# EAGLE library part ADUM1200ARZ (library ADUM1200ARZ)
Dual-Channel Digital Isolators
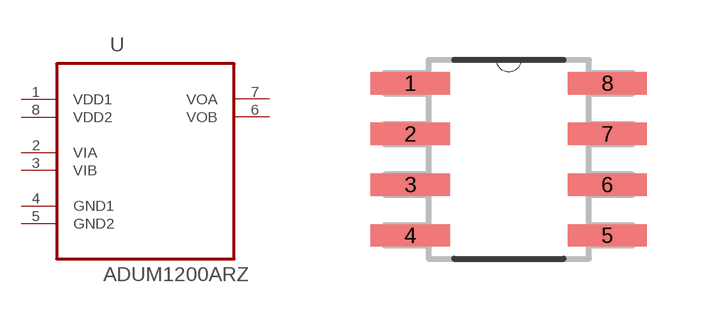
[diagram p0: symbol with the pads of SOIC127P600X175-8N; footprint SOIC127P600X175-8N]

Designator prefix U

## ADUM1200ARZ (Availability: Unavailable; Description: General Purpose Digital Isolator 2500Vrms 2 Channel 1Mbps 25kV/µs CMTI 8-SOIC _0.154, 3.90mm Width_; MF: Analog Devices; MP: ADUM1200ARZ; Package: SOIC-8 Analog Devices; Price: None)  [SOIC127P600X175-8N]
1  VDD1  pwr
2  VIA  in
3  VIB  in
4  GND1  pas
5  GND2  pas
6  VOB  out
7  VOA  out
8  VDD2  pwr

## Footprint SOIC127P600X175-8N (pad centres in mm)
smd 1.981 x 0.559: 1 -2.464,1.905; 2 -2.464,0.635; 3 -2.464,-0.635; 4 -2.464,-1.905; 5 2.464,-1.905; 6 2.464,-0.635; 7 2.464,0.635; 8 2.464,1.905